# Altium schematic symbol library Resistors$.SchLib: 672 symbols (part 5 of 5)
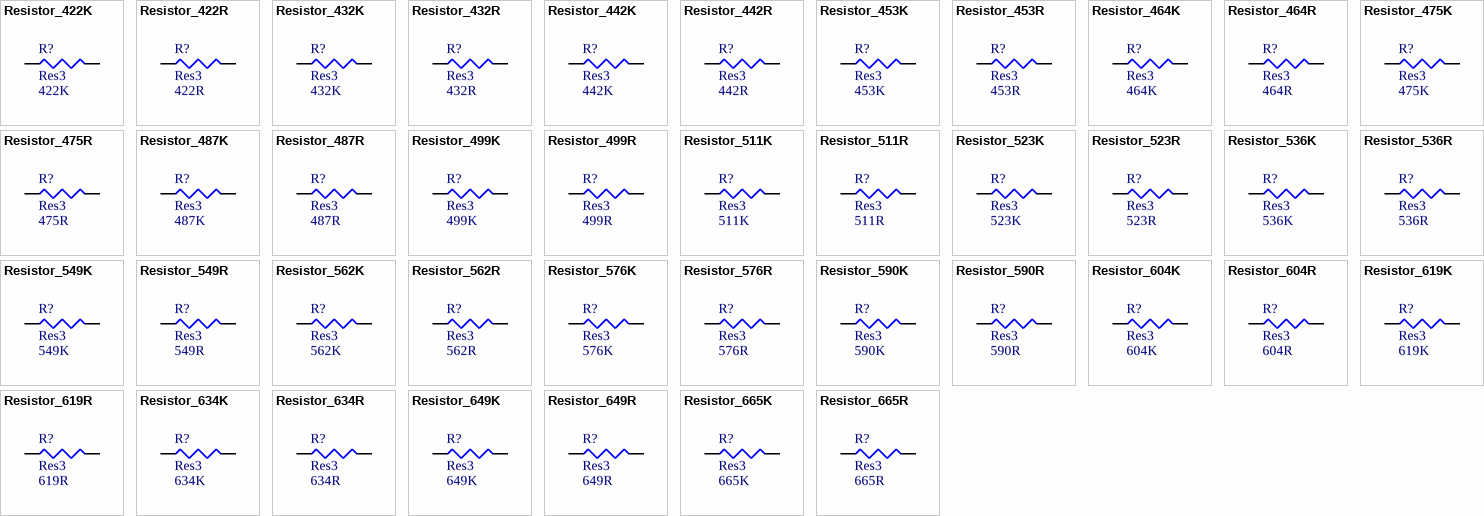
[diagram p20: symbols Resistor_422K to Resistor_665R]

## Resistor_442K
designator R?, comment Res3  value 442K
RES SMD 442K OHM 1% 1/8W 0805; MPN: CRCW0805442KFKEA; Name: Resistor_442K; PN: 541-4420KCCT-ND; URL: http://www.digikey.ca/product-detail/en/CRCW0805442KFKEA/541-4420KCCT-ND
footprint RESC2112X05M (Chip Resistor, 2-Leads, Body 2.05x1.25mm, IPC Low Density)
pins: 1, 2

## Resistor_442R
designator R?, comment Res3  value 442R
RES SMD 442R OHM 1% 1/8W 0805; MPN: CRCW0805442RFKEA; Name: Resistor_442R; PN: 541-442CCT-ND; URL: http://www.digikey.ca/product-detail/en/CRCW0805442RFKEA/541-442CCT-ND
footprint RESC2112X05M (Chip Resistor, 2-Leads, Body 2.05x1.25mm, IPC Low Density)
pins: 1, 2

## Resistor_453K
designator R?, comment Res3  value 453K
RES SMD 453K OHM 1% 1/8W 0805; MPN: CRCW0805453KFKEA; Name: Resistor_453K; PN: 541-4530KCCT-ND; URL: http://www.digikey.ca/product-detail/en/CRCW0805453KFKEA/541-4530KCCT-ND
footprint RESC2112X05M (Chip Resistor, 2-Leads, Body 2.05x1.25mm, IPC Low Density)
pins: 1, 2

## Resistor_453R
designator R?, comment Res3  value 453R
RES SMD 453R OHM 1% 1/8W 0805; MPN: CRCW0805453RFKEA; Name: Resistor_453R; PN: 541-453CCT-ND; URL: http://www.digikey.ca/product-detail/en/CRCW0805453RFKEA/541-453CCT-ND
footprint RESC2112X05M (Chip Resistor, 2-Leads, Body 2.05x1.25mm, IPC Low Density)
pins: 1, 2

## Resistor_464K
designator R?, comment Res3  value 464K
RES SMD 464K OHM 1% 1/8W 0805; MPN: CRCW0805464KFKEA; Name: Resistor_464K; PN: 541-4640KCCT-ND; URL: http://www.digikey.ca/product-detail/en/CRCW0805464KFKEA/541-4640KCCT-ND
footprint RESC2112X05M (Chip Resistor, 2-Leads, Body 2.05x1.25mm, IPC Low Density)
pins: 1, 2

## Resistor_464R
designator R?, comment Res3  value 464R
RES SMD 464R OHM 1% 1/8W 0805; MPN: CRCW0805464RFKEA; Name: Resistor_464R; PN: 541-464CCT-ND; URL: http://www.digikey.ca/product-detail/en/CRCW0805464RFKEA/541-464CCT-ND
footprint RESC2112X05M (Chip Resistor, 2-Leads, Body 2.05x1.25mm, IPC Low Density)
pins: 1, 2

## Resistor_475K
designator R?, comment Res3  value 475K
RES SMD 475K OHM 1% 1/8W 0805; MPN: CRCW0805475KFKEA; Name: Resistor_475K; PN: 541-4750KCCT-ND; URL: http://www.digikey.ca/product-detail/en/CRCW0805475KFKEA/541-4750KCCT-ND
footprint RESC2112X05M (Chip Resistor, 2-Leads, Body 2.05x1.25mm, IPC Low Density)
pins: 1, 2

## Resistor_475R
designator R?, comment Res3  value 475R
RES SMD 475R OHM 1% 1/8W 0805; MPN: CRCW0805475RFKEA; Name: Resistor_475R; PN: 541-475CCT-ND; URL: http://www.digikey.ca/product-detail/en/CRCW0805475RFKEA/541-475CCT-ND
footprint RESC2112X05M (Chip Resistor, 2-Leads, Body 2.05x1.25mm, IPC Low Density)
pins: 1, 2

## Resistor_487K
designator R?, comment Res3  value 487K
RES SMD 487K OHM 1% 1/8W 0805; MPN: CRCW0805487KFKEA; Name: Resistor_487K; PN: 541-4870KCCT-ND; URL: http://www.digikey.ca/product-detail/en/CRCW0805487KFKEA/541-4870KCCT-ND
footprint RESC2112X05M (Chip Resistor, 2-Leads, Body 2.05x1.25mm, IPC Low Density)
pins: 1, 2

## Resistor_487R
designator R?, comment Res3  value 487R
RES SMD 487R OHM 1% 1/8W 0805; MPN: CRCW0805487RFKEA; Name: Resistor_487R; PN: 541-487CCT-ND; URL: http://www.digikey.ca/product-detail/en/CRCW0805487RFKEA/541-487CCT-ND
footprint RESC2112X05M (Chip Resistor, 2-Leads, Body 2.05x1.25mm, IPC Low Density)
pins: 1, 2

## Resistor_499K
designator R?, comment Res3  value 499K
RES SMD 499K OHM 1% 1/8W 0805; MPN: CRCW0805499KFKEA; Name: Resistor_499K; PN: 541-4990KCCT-ND; URL: http://www.digikey.ca/product-detail/en/CRCW0805499KFKEA/541-4990KCCT-ND
footprint RESC2112X05M (Chip Resistor, 2-Leads, Body 2.05x1.25mm, IPC Low Density)
pins: 1, 2

## Resistor_499R
designator R?, comment Res3  value 499R
RES SMD 499R OHM 1% 1/8W 0805; MPN: CRCW0805499RFKEA; Name: Resistor_499R; PN: 541-499CCT-ND; URL: http://www.digikey.ca/product-detail/en/CRCW0805499RFKEA/541-499CCT-ND
footprint RESC2112X05M (Chip Resistor, 2-Leads, Body 2.05x1.25mm, IPC Low Density)
pins: 1, 2

## Resistor_511K
designator R?, comment Res3  value 511K
RES SMD 511K OHM 1% 1/8W 0805; MPN: CRCW0805511KFKEA; Name: Resistor_511K; PN: 541-5110KCCT-ND; URL: http://www.digikey.ca/product-detail/en/CRCW0805511KFKEA/541-5110KCCT-ND
footprint RESC2112X05M (Chip Resistor, 2-Leads, Body 2.05x1.25mm, IPC Low Density)
pins: 1, 2

## Resistor_511R
designator R?, comment Res3  value 511R
RES SMD 511R OHM 1% 1/8W 0805; MPN: CRCW0805511RFKEA; Name: Resistor_511R; PN: 541-511CCT-ND; URL: http://www.digikey.ca/product-detail/en/CRCW0805511RFKEA/541-511CCT-ND
footprint RESC2112X05M (Chip Resistor, 2-Leads, Body 2.05x1.25mm, IPC Low Density)
pins: 1, 2

## Resistor_523K
designator R?, comment Res3  value 523K
RES SMD 523K OHM 1% 1/8W 0805; MPN: CRCW0805523KFKEA; Name: Resistor_523K; PN: 541-5230KCCT-ND; URL: http://www.digikey.ca/product-detail/en/CRCW0805523KFKEA/541-5230KCCT-ND
footprint RESC2112X05M (Chip Resistor, 2-Leads, Body 2.05x1.25mm, IPC Low Density)
pins: 1, 2

## Resistor_523R
designator R?, comment Res3  value 523R
RES SMD 523R OHM 1% 1/8W 0805; MPN: CRCW0805523RFKEA; Name: Resistor_523R; PN: 541-523CCT-ND; URL: http://www.digikey.ca/product-detail/en/CRCW0805523RFKEA/541-523CCT-ND
footprint RESC2112X05M (Chip Resistor, 2-Leads, Body 2.05x1.25mm, IPC Low Density)
pins: 1, 2

## Resistor_536K
designator R?, comment Res3  value 536K
RES SMD 536K OHM 1% 1/8W 0805; MPN: CRCW0805536KFKEA; Name: Resistor_536K; PN: 541-5360KCCT-ND; URL: http://www.digikey.ca/product-detail/en/CRCW0805536KFKEA/541-5360KCCT-ND
footprint RESC2112X05M (Chip Resistor, 2-Leads, Body 2.05x1.25mm, IPC Low Density)
pins: 1, 2

## Resistor_536R
designator R?, comment Res3  value 536R
RES SMD 536R OHM 1% 1/8W 0805; MPN: CRCW0805536RFKEA; Name: Resistor_536R; PN: 541-536CCT-ND; URL: http://www.digikey.ca/product-detail/en/CRCW0805536RFKEA/541-536CCT-ND
footprint RESC2112X05M (Chip Resistor, 2-Leads, Body 2.05x1.25mm, IPC Low Density)
pins: 1, 2

## Resistor_549K
designator R?, comment Res3  value 549K
RES SMD 549K OHM 1% 1/8W 0805; MPN: CRCW0805549KFKEA; Name: Resistor_549K; PN: 541-5490KCCT-ND; URL: http://www.digikey.ca/product-detail/en/CRCW0805549KFKEA/541-5490KCCT-ND
footprint RESC2112X05M (Chip Resistor, 2-Leads, Body 2.05x1.25mm, IPC Low Density)
pins: 1, 2

## Resistor_549R
designator R?, comment Res3  value 549R
RES SMD 549R OHM 1% 1/8W 0805; MPN: CRCW0805549RFKEA; Name: Resistor_549R; PN: 541-549CCT-ND; URL: http://www.digikey.ca/product-detail/en/CRCW0805549RFKEA/541-549CCT-ND
footprint RESC2112X05M (Chip Resistor, 2-Leads, Body 2.05x1.25mm, IPC Low Density)
pins: 1, 2

## Resistor_562K
designator R?, comment Res3  value 562K
RES SMD 562K OHM 1% 1/8W 0805; MPN: CRCW0805562KFKEA; Name: Resistor_562K; PN: 541-5620KCCT-ND; URL: http://www.digikey.ca/product-detail/en/CRCW0805562KFKEA/541-5620KCCT-ND
footprint RESC2112X05M (Chip Resistor, 2-Leads, Body 2.05x1.25mm, IPC Low Density)
pins: 1, 2

## Resistor_562R
designator R?, comment Res3  value 562R
RES SMD 562R OHM 1% 1/8W 0805; MPN: CRCW0805562RFKEA; Name: Resistor_562R; PN: 541-562CCT-ND; URL: http://www.digikey.ca/product-detail/en/CRCW0805562RFKEA/541-562CCT-ND
footprint RESC2112X05M (Chip Resistor, 2-Leads, Body 2.05x1.25mm, IPC Low Density)
pins: 1, 2

## Resistor_576K
designator R?, comment Res3  value 576K
RES SMD 576K OHM 1% 1/8W 0805; MPN: CRCW0805576KFKEA; Name: Resistor_576K; PN: 541-5760KCCT-ND; URL: http://www.digikey.ca/product-detail/en/CRCW0805576KFKEA/541-5760KCCT-ND
footprint RESC2112X05M (Chip Resistor, 2-Leads, Body 2.05x1.25mm, IPC Low Density)
pins: 1, 2

## Resistor_576R
designator R?, comment Res3  value 576R
RES SMD 576R OHM 1% 1/8W 0805; MPN: CRCW0805576RFKEA; Name: Resistor_576R; PN: 541-576CCT-ND; URL: http://www.digikey.ca/product-detail/en/CRCW0805576RFKEA/541-576CCT-ND
footprint RESC2112X05M (Chip Resistor, 2-Leads, Body 2.05x1.25mm, IPC Low Density)
pins: 1, 2

## Resistor_590K
designator R?, comment Res3  value 590K
RES SMD 590K OHM 1% 1/8W 0805; MPN: CRCW0805590KFKEA; Name: Resistor_590K; PN: 541-5900KCCT-ND; URL: http://www.digikey.ca/product-detail/en/CRCW0805590KFKEA/541-5900KCCT-ND
footprint RESC2112X05M (Chip Resistor, 2-Leads, Body 2.05x1.25mm, IPC Low Density)
pins: 1, 2

## Resistor_590R
designator R?, comment Res3  value 590R
RES SMD 590R OHM 1% 1/8W 0805; MPN: CRCW0805590RFKEA; Name: Resistor_590R; PN: 541-590CCT-ND; URL: http://www.digikey.ca/product-detail/en/CRCW0805590RFKEA/541-590CCT-ND
footprint RESC2112X05M (Chip Resistor, 2-Leads, Body 2.05x1.25mm, IPC Low Density)
pins: 1, 2

## Resistor_604K
designator R?, comment Res3  value 604K
RES SMD 604K OHM 1% 1/8W 0805; MPN: CRCW0805604KFKEA; Name: Resistor_604K; PN: 541-6040KCCT-ND; URL: http://www.digikey.ca/product-detail/en/CRCW0805604KFKEA/541-6040KCCT-ND
footprint RESC2112X05M (Chip Resistor, 2-Leads, Body 2.05x1.25mm, IPC Low Density)
pins: 1, 2

## Resistor_604R
designator R?, comment Res3  value 604R
RES SMD 604R OHM 1% 1/8W 0805; MPN: CRCW0805604RFKEA; Name: Resistor_604R; PN: 541-604CCT-ND; URL: http://www.digikey.ca/product-detail/en/CRCW0805604RFKEA/541-604CCT-ND
footprint RESC2112X05M (Chip Resistor, 2-Leads, Body 2.05x1.25mm, IPC Low Density)
pins: 1, 2

## Resistor_619K
designator R?, comment Res3  value 619K
RES SMD 619K OHM 1% 1/8W 0805; MPN: CRCW0805619KFKEA; Name: Resistor_619K; PN: 541-6190KCCT-ND; URL: http://www.digikey.ca/product-detail/en/CRCW0805619KFKEA/541-6190KCCT-ND
footprint RESC2112X05M (Chip Resistor, 2-Leads, Body 2.05x1.25mm, IPC Low Density)
pins: 1, 2

## Resistor_619R
designator R?, comment Res3  value 619R
RES SMD 619R OHM 1% 1/8W 0805; MPN: CRCW0805619RFKEA; Name: Resistor_619R; PN: 541-619CCT-ND; URL: http://www.digikey.ca/product-detail/en/CRCW0805619RFKEA/541-619CCT-ND
footprint RESC2112X05M (Chip Resistor, 2-Leads, Body 2.05x1.25mm, IPC Low Density)
pins: 1, 2

## Resistor_634K
designator R?, comment Res3  value 634K
RES SMD 634K OHM 1% 1/8W 0805; MPN: CRCW0805634KFKEA; Name: Resistor_634K; PN: 541-6340KCCT-ND; URL: http://www.digikey.ca/product-detail/en/CRCW0805634KFKEA/541-6340KCCT-ND
footprint RESC2112X05M (Chip Resistor, 2-Leads, Body 2.05x1.25mm, IPC Low Density)
pins: 1, 2

## Resistor_634R
designator R?, comment Res3  value 634R
RES SMD 634R OHM 1% 1/8W 0805; MPN: CRCW0805634RFKEA; Name: Resistor_634R; PN: 541-634CCT-ND; URL: http://www.digikey.ca/product-detail/en/CRCW0805634RFKEA/541-634CCT-ND
footprint RESC2112X05M (Chip Resistor, 2-Leads, Body 2.05x1.25mm, IPC Low Density)
pins: 1, 2

## Resistor_649K
designator R?, comment Res3  value 649K
RES SMD 649K OHM 1% 1/8W 0805; MPN: CRCW0805649KFKEA; Name: Resistor_649K; PN: 541-6490KCCT-ND; URL: http://www.digikey.ca/product-detail/en/CRCW0805649KFKEA/541-6490KCCT-ND
footprint RESC2112X05M (Chip Resistor, 2-Leads, Body 2.05x1.25mm, IPC Low Density)
pins: 1, 2

## Resistor_649R
designator R?, comment Res3  value 649R
RES SMD 649R OHM 1% 1/8W 0805; MPN: CRCW0805649RFKEA; Name: Resistor_649R; PN: 541-649CCT-ND; URL: http://www.digikey.ca/product-detail/en/CRCW0805649RFKEA/541-649CCT-ND
footprint RESC2112X05M (Chip Resistor, 2-Leads, Body 2.05x1.25mm, IPC Low Density)
pins: 1, 2

## Resistor_665K
designator R?, comment Res3  value 665K
RES SMD 665K OHM 1% 1/8W 0805; MPN: CRCW0805665KFKEA; Name: Resistor_665K; PN: 541-6650KCCT-ND; URL: http://www.digikey.ca/product-detail/en/CRCW0805665KFKEA/541-6650KCCT-ND
footprint RESC2112X05M (Chip Resistor, 2-Leads, Body 2.05x1.25mm, IPC Low Density)
pins: 1, 2

## Resistor_665R
designator R?, comment Res3  value 665R
RES SMD 665R OHM 1% 1/8W 0805; MPN: CRCW0805665RFKEA; Name: Resistor_665R; PN: 541-665CCT-ND; URL: http://www.digikey.ca/product-detail/en/CRCW0805665RFKEA/541-665CCT-ND
footprint RESC2112X05M (Chip Resistor, 2-Leads, Body 2.05x1.25mm, IPC Low Density)
pins: 1, 2

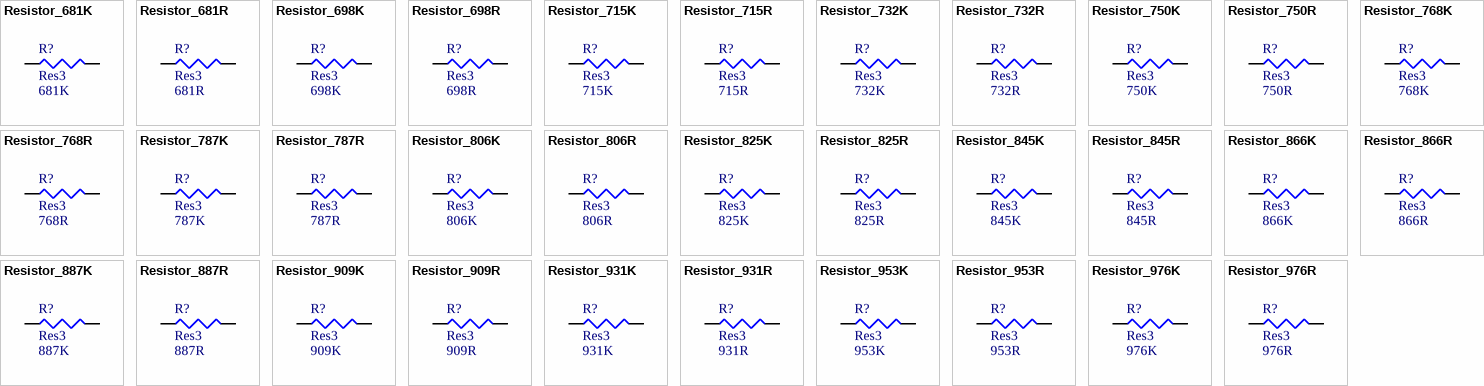
[diagram p16: symbols Resistor_681K to Resistor_976R]

## Resistor_681K
designator R?, comment Res3  value 681K
RES SMD 681K OHM 1% 1/8W 0805; MPN: CRCW0805681KFKEA; Name: Resistor_681K; PN: 541-6810KCCT-ND; URL: http://www.digikey.ca/product-detail/en/CRCW0805681KFKEA/541-6810KCCT-ND
footprint RESC2112X05M (Chip Resistor, 2-Leads, Body 2.05x1.25mm, IPC Low Density)
pins: 1, 2

## Resistor_681R
designator R?, comment Res3  value 681R
RES SMD 681R OHM 1% 1/8W 0805; MPN: CRCW0805681RFKEA; Name: Resistor_681R; PN: 541-681CCT-ND; URL: http://www.digikey.ca/product-detail/en/CRCW0805681RFKEA/541-681CCT-ND
footprint RESC2112X05M (Chip Resistor, 2-Leads, Body 2.05x1.25mm, IPC Low Density)
pins: 1, 2

## Resistor_698K
designator R?, comment Res3  value 698K
RES SMD 698K OHM 1% 1/8W 0805; MPN: CRCW0805698KFKEA; Name: Resistor_698K; PN: 541-6980KCCT-ND; URL: http://www.digikey.ca/product-detail/en/CRCW0805698KFKEA/541-6980KCCT-ND
footprint RESC2112X05M (Chip Resistor, 2-Leads, Body 2.05x1.25mm, IPC Low Density)
pins: 1, 2

## Resistor_698R
designator R?, comment Res3  value 698R
RES SMD 698R OHM 1% 1/8W 0805; MPN: CRCW0805698RFKEA; Name: Resistor_698R; PN: 541-698CCT-ND; URL: http://www.digikey.ca/product-detail/en/CRCW0805698RFKEA/541-698CCT-ND
footprint RESC2112X05M (Chip Resistor, 2-Leads, Body 2.05x1.25mm, IPC Low Density)
pins: 1, 2

## Resistor_715K
designator R?, comment Res3  value 715K
RES SMD 715K OHM 1% 1/8W 0805; MPN: CRCW0805715KFKEA; Name: Resistor_715K; PN: 541-7150KCCT-ND; URL: http://www.digikey.ca/product-detail/en/CRCW0805715KFKEA/541-7150KCCT-ND
footprint RESC2112X05M (Chip Resistor, 2-Leads, Body 2.05x1.25mm, IPC Low Density)
pins: 1, 2

## Resistor_715R
designator R?, comment Res3  value 715R
RES SMD 715R OHM 1% 1/8W 0805; MPN: CRCW0805715RFKEA; Name: Resistor_715R; PN: 541-715CCT-ND; URL: http://www.digikey.ca/product-detail/en/CRCW0805715RFKEA/541-715CCT-ND
footprint RESC2112X05M (Chip Resistor, 2-Leads, Body 2.05x1.25mm, IPC Low Density)
pins: 1, 2

## Resistor_732K
designator R?, comment Res3  value 732K
RES SMD 732K OHM 1% 1/8W 0805; MPN: CRCW0805732KFKEA; Name: Resistor_732K; PN: 541-7320KCCT-ND; URL: http://www.digikey.ca/product-detail/en/CRCW0805732KFKEA/541-7320KCCT-ND
footprint RESC2112X05M (Chip Resistor, 2-Leads, Body 2.05x1.25mm, IPC Low Density)
pins: 1, 2

## Resistor_732R
designator R?, comment Res3  value 732R
RES SMD 732R OHM 1% 1/8W 0805; MPN: CRCW0805732RFKEA; Name: Resistor_732R; PN: 541-732CCT-ND; URL: http://www.digikey.ca/product-detail/en/CRCW0805732RFKEA/541-732CCT-ND
footprint RESC2112X05M (Chip Resistor, 2-Leads, Body 2.05x1.25mm, IPC Low Density)
pins: 1, 2

## Resistor_750K
designator R?, comment Res3  value 750K
RES SMD 750K OHM 1% 1/8W 0805; MPN: CRCW0805750KFKEA; Name: Resistor_750K; PN: 541-7500KCCT-ND; URL: http://www.digikey.ca/product-detail/en/CRCW0805750KFKEA/541-7500KCCT-ND
footprint RESC2112X05M (Chip Resistor, 2-Leads, Body 2.05x1.25mm, IPC Low Density)
pins: 1, 2

## Resistor_750R
designator R?, comment Res3  value 750R
RES SMD 750R OHM 1% 1/8W 0805; MPN: CRCW0805750RFKEA; Name: Resistor_750R; PN: 541-750CCT-ND; URL: http://www.digikey.ca/product-detail/en/CRCW0805750RFKEA/541-750CCT-ND
footprint RESC2112X05M (Chip Resistor, 2-Leads, Body 2.05x1.25mm, IPC Low Density)
pins: 1, 2

## Resistor_768K
designator R?, comment Res3  value 768K
RES SMD 768K OHM 1% 1/8W 0805; MPN: CRCW0805768KFKEA; Name: Resistor_768K; PN: 541-7680KCCT-ND; URL: http://www.digikey.ca/product-detail/en/CRCW0805768KFKEA/541-7680KCCT-ND
footprint RESC2112X05M (Chip Resistor, 2-Leads, Body 2.05x1.25mm, IPC Low Density)
pins: 1, 2

## Resistor_768R
designator R?, comment Res3  value 768R
RES SMD 768R OHM 1% 1/8W 0805; MPN: CRCW0805768RFKEA; Name: Resistor_768R; PN: 541-768CCT-ND; URL: http://www.digikey.ca/product-detail/en/CRCW0805768RFKEA/541-768CCT-ND
footprint RESC2112X05M (Chip Resistor, 2-Leads, Body 2.05x1.25mm, IPC Low Density)
pins: 1, 2

## Resistor_787K
designator R?, comment Res3  value 787K
RES SMD 787K OHM 1% 1/8W 0805; MPN: CRCW0805787KFKEA; Name: Resistor_787K; PN: 541-7870KCCT-ND; URL: http://www.digikey.ca/product-detail/en/CRCW0805787KFKEA/541-7870KCCT-ND
footprint RESC2112X05M (Chip Resistor, 2-Leads, Body 2.05x1.25mm, IPC Low Density)
pins: 1, 2

## Resistor_787R
designator R?, comment Res3  value 787R
RES SMD 787R OHM 1% 1/8W 0805; MPN: CRCW0805787RFKEA; Name: Resistor_787R; PN: 541-787CCT-ND; URL: http://www.digikey.ca/product-detail/en/CRCW0805787RFKEA/541-787CCT-ND
footprint RESC2112X05M (Chip Resistor, 2-Leads, Body 2.05x1.25mm, IPC Low Density)
pins: 1, 2

## Resistor_806K
designator R?, comment Res3  value 806K
RES SMD 806K OHM 1% 1/8W 0805; MPN: CRCW0805806KFKEA; Name: Resistor_806K; PN: 541-8060KCCT-ND; URL: http://www.digikey.ca/product-detail/en/CRCW0805806KFKEA/541-8060KCCT-ND
footprint RESC2112X05M (Chip Resistor, 2-Leads, Body 2.05x1.25mm, IPC Low Density)
pins: 1, 2

## Resistor_806R
designator R?, comment Res3  value 806R
RES SMD 806R OHM 1% 1/8W 0805; MPN: CRCW0805806RFKEA; Name: Resistor_806R; PN: 541-806CCT-ND; URL: http://www.digikey.ca/product-detail/en/CRCW0805806RFKEA/541-806CCT-ND
footprint RESC2112X05M (Chip Resistor, 2-Leads, Body 2.05x1.25mm, IPC Low Density)
pins: 1, 2

## Resistor_825K
designator R?, comment Res3  value 825K
RES SMD 825K OHM 1% 1/8W 0805; MPN: CRCW0805825KFKEA; Name: Resistor_825K; PN: 541-8250KCCT-ND; URL: http://www.digikey.ca/product-detail/en/CRCW0805825KFKEA/541-8250KCCT-ND
footprint RESC2112X05M (Chip Resistor, 2-Leads, Body 2.05x1.25mm, IPC Low Density)
pins: 1, 2

## Resistor_825R
designator R?, comment Res3  value 825R
RES SMD 825R OHM 1% 1/8W 0805; MPN: CRCW0805825RFKEA; Name: Resistor_825R; PN: 541-825CCT-ND; URL: http://www.digikey.ca/product-detail/en/CRCW0805825RFKEA/541-825CCT-ND
footprint RESC2112X05M (Chip Resistor, 2-Leads, Body 2.05x1.25mm, IPC Low Density)
pins: 1, 2

## Resistor_845K
designator R?, comment Res3  value 845K
RES SMD 845K OHM 1% 1/8W 0805; MPN: CRCW0805845KFKEA; Name: Resistor_845K; PN: 541-8450KCCT-ND; URL: http://www.digikey.ca/product-detail/en/CRCW0805845KFKEA/541-8450KCCT-ND
footprint RESC2112X05M (Chip Resistor, 2-Leads, Body 2.05x1.25mm, IPC Low Density)
pins: 1, 2

## Resistor_845R
designator R?, comment Res3  value 845R
RES SMD 845R OHM 1% 1/8W 0805; MPN: CRCW0805845RFKEA; Name: Resistor_845R; PN: 541-845CCT-ND; URL: http://www.digikey.ca/product-detail/en/CRCW0805845RFKEA/541-845CCT-ND
footprint RESC2112X05M (Chip Resistor, 2-Leads, Body 2.05x1.25mm, IPC Low Density)
pins: 1, 2

## Resistor_866K
designator R?, comment Res3  value 866K
RES SMD 866K OHM 1% 1/8W 0805; MPN: CRCW0805866KFKEA; Name: Resistor_866K; PN: 541-8660KCCT-ND; URL: http://www.digikey.ca/product-detail/en/CRCW0805866KFKEA/541-8660KCCT-ND
footprint RESC2112X05M (Chip Resistor, 2-Leads, Body 2.05x1.25mm, IPC Low Density)
pins: 1, 2

## Resistor_866R
designator R?, comment Res3  value 866R
RES SMD 866R OHM 1% 1/8W 0805; MPN: CRCW0805866RFKEA; Name: Resistor_866R; PN: 541-866CCT-ND; URL: http://www.digikey.ca/product-detail/en/CRCW0805866RFKEA/541-866CCT-ND
footprint RESC2112X05M (Chip Resistor, 2-Leads, Body 2.05x1.25mm, IPC Low Density)
pins: 1, 2

## Resistor_887K
designator R?, comment Res3  value 887K
RES SMD 887K OHM 1% 1/8W 0805; MPN: CRCW0805887KFKEA; Name: Resistor_887K; PN: 541-8870KCCT-ND; URL: http://www.digikey.ca/product-detail/en/CRCW0805887KFKEA/541-8870KCCT-ND
footprint RESC2112X05M (Chip Resistor, 2-Leads, Body 2.05x1.25mm, IPC Low Density)
pins: 1, 2

## Resistor_887R
designator R?, comment Res3  value 887R
RES SMD 887R OHM 1% 1/8W 0805; MPN: CRCW0805887RFKEA; Name: Resistor_887R; PN: 541-887CCT-ND; URL: http://www.digikey.ca/product-detail/en/CRCW0805887RFKEA/541-887CCT-ND
footprint RESC2112X05M (Chip Resistor, 2-Leads, Body 2.05x1.25mm, IPC Low Density)
pins: 1, 2

## Resistor_909K
designator R?, comment Res3  value 909K
RES SMD 909K OHM 1% 1/8W 0805; MPN: CRCW0805909KFKEA; Name: Resistor_909K; PN: 541-9090KCCT-ND; URL: http://www.digikey.ca/product-detail/en/CRCW0805909KFKEA/541-9090KCCT-ND
footprint RESC2112X05M (Chip Resistor, 2-Leads, Body 2.05x1.25mm, IPC Low Density)
pins: 1, 2

## Resistor_909R
designator R?, comment Res3  value 909R
RES SMD 909R OHM 1% 1/8W 0805; MPN: CRCW0805909RFKEA; Name: Resistor_909R; PN: 541-909CCT-ND; URL: http://www.digikey.ca/product-detail/en/CRCW0805909RFKEA/541-909CCT-ND
footprint RESC2112X05M (Chip Resistor, 2-Leads, Body 2.05x1.25mm, IPC Low Density)
pins: 1, 2

## Resistor_931K
designator R?, comment Res3  value 931K
RES SMD 931K OHM 1% 1/8W 0805; MPN: CRCW0805931KFKEA; Name: Resistor_931K; PN: 541-9310KCCT-ND; URL: http://www.digikey.ca/product-detail/en/CRCW0805931KFKEA/541-9310KCCT-ND
footprint RESC2112X05M (Chip Resistor, 2-Leads, Body 2.05x1.25mm, IPC Low Density)
pins: 1, 2

## Resistor_931R
designator R?, comment Res3  value 931R
RES SMD 931R OHM 1% 1/8W 0805; MPN: CRCW0805931RFKEA; Name: Resistor_931R; PN: 541-931CCT-ND; URL: http://www.digikey.ca/product-detail/en/CRCW0805931RFKEA/541-931CCT-ND
footprint RESC2112X05M (Chip Resistor, 2-Leads, Body 2.05x1.25mm, IPC Low Density)
pins: 1, 2

## Resistor_953K
designator R?, comment Res3  value 953K
RES SMD 953K OHM 1% 1/8W 0805; MPN: CRCW0805953KFKEA; Name: Resistor_953K; PN: 541-9530KCCT-ND; URL: http://www.digikey.ca/product-detail/en/CRCW0805953KFKEA/541-9530KCCT-ND
footprint RESC2112X05M (Chip Resistor, 2-Leads, Body 2.05x1.25mm, IPC Low Density)
pins: 1, 2

## Resistor_953R
designator R?, comment Res3  value 953R
RES SMD 953R OHM 1% 1/8W 0805; MPN: CRCW0805953RFKEA; Name: Resistor_953R; PN: 541-953CCT-ND; URL: http://www.digikey.ca/product-detail/en/CRCW0805953RFKEA/541-953CCT-ND
footprint RESC2112X05M (Chip Resistor, 2-Leads, Body 2.05x1.25mm, IPC Low Density)
pins: 1, 2

## Resistor_976K
designator R?, comment Res3  value 976K
RES SMD 976K OHM 1% 1/8W 0805; MPN: CRCW0805976KFKEA; Name: Resistor_976K; PN: 541-9760KCCT-ND; URL: http://www.digikey.ca/product-detail/en/CRCW0805976KFKEA/541-9760KCCT-ND
footprint RESC2112X05M (Chip Resistor, 2-Leads, Body 2.05x1.25mm, IPC Low Density)
pins: 1, 2

## Resistor_976R
designator R?, comment Res3  value 976R
RES SMD 976R OHM 1% 1/8W 0805; MPN: CRCW0805976RFKEA; Name: Resistor_976R; PN: 541-976CCT-ND; URL: http://www.digikey.ca/product-detail/en/CRCW0805976RFKEA/541-976CCT-ND
footprint RESC2112X05M (Chip Resistor, 2-Leads, Body 2.05x1.25mm, IPC Low Density)
pins: 1, 2